# Altium footprint library SIPF10_2_MM.PcbLib: 2 footprints
Each footprint in its own frame and in the unit in brackets; x right, y up, seen from the top. Pads: shape width x height; smd on the part's side, far side on the other; paste and mask are expansions set on the pad; w line width, h text height; cw(c..) or ccw(c..) is an arc to the next point about the centre after c.
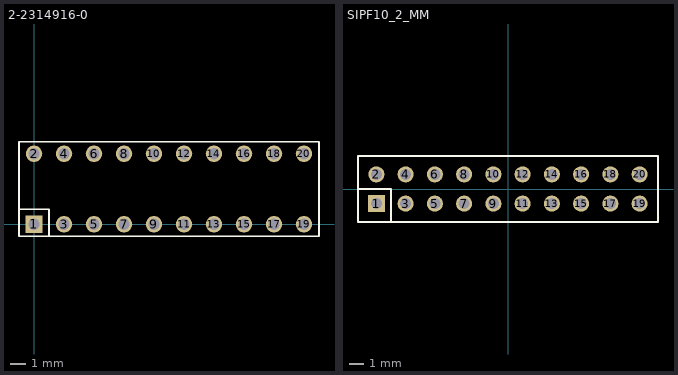
[diagram p0: the footprints below, top view; thin cyan lines are the x and y axes]

## 2-2314916-0 [mm]
pads (20):
  rect 1.15x1.15 hole 0.75: 1(0,0)
  round 1.1 hole 0.75: 2(0,4.7) 3(2,0) 4(2,4.7) 5(4,0) 6(4,4.7) 7(6,0) 8(6,4.7) 9(8,0) 10(8,4.7) 11(10,0) 12(10,4.7) 13(12,0) 14(12,4.7) 15(14,0) 16(14,4.7) 17(16,0) 18(16,4.7) 19(18,0) 20(18,4.7)
Top Overlay:
  lines w0.127: -1,1 1,1 1,-0.8 ; -1,-0.8 -1,5.5 19,5.5 19,-0.8 -1,-0.8
3D body "c-2-2314916-0-5-3d.stp": height 4.03, standoff -2.13, extent -0.996,-0.112 19.004,4.788

## SIPF10_2_MM [mm]
pads (20):
  rect 1.15x1.15 hole 0.75: 1(-9,-1)
  round 1.1 hole 0.75: 2(-9,1) 3(-7,-1) 4(-7,1) 5(-5,-1) 6(-5,1) 7(-3,-1) 8(-3,1) 9(-1,-1) 10(-1,1) 11(1,-1) 12(1,1) 13(3,-1) 14(3,1) 15(5,-1) 16(5,1) 17(7,-1) 18(7,1) 19(9,-1) 20(9,1)
Top Overlay:
  lines w0.127: -10.254,0 -8,0 -8,-2.254 ; -10.254,-2.267 -10.254,2.267 10.254,2.267 10.254,-2.267 -10.254,-2.267
3D body "female_header_a-bl200-dg-g20d.stp": height 4.1, standoff -2.6, extent -10.247,-2.247 10.253,2.253